# Altium integrated library TI_Logic_Universal_Bus_Function.IntLib: 113 symbols (part 3 of 5)
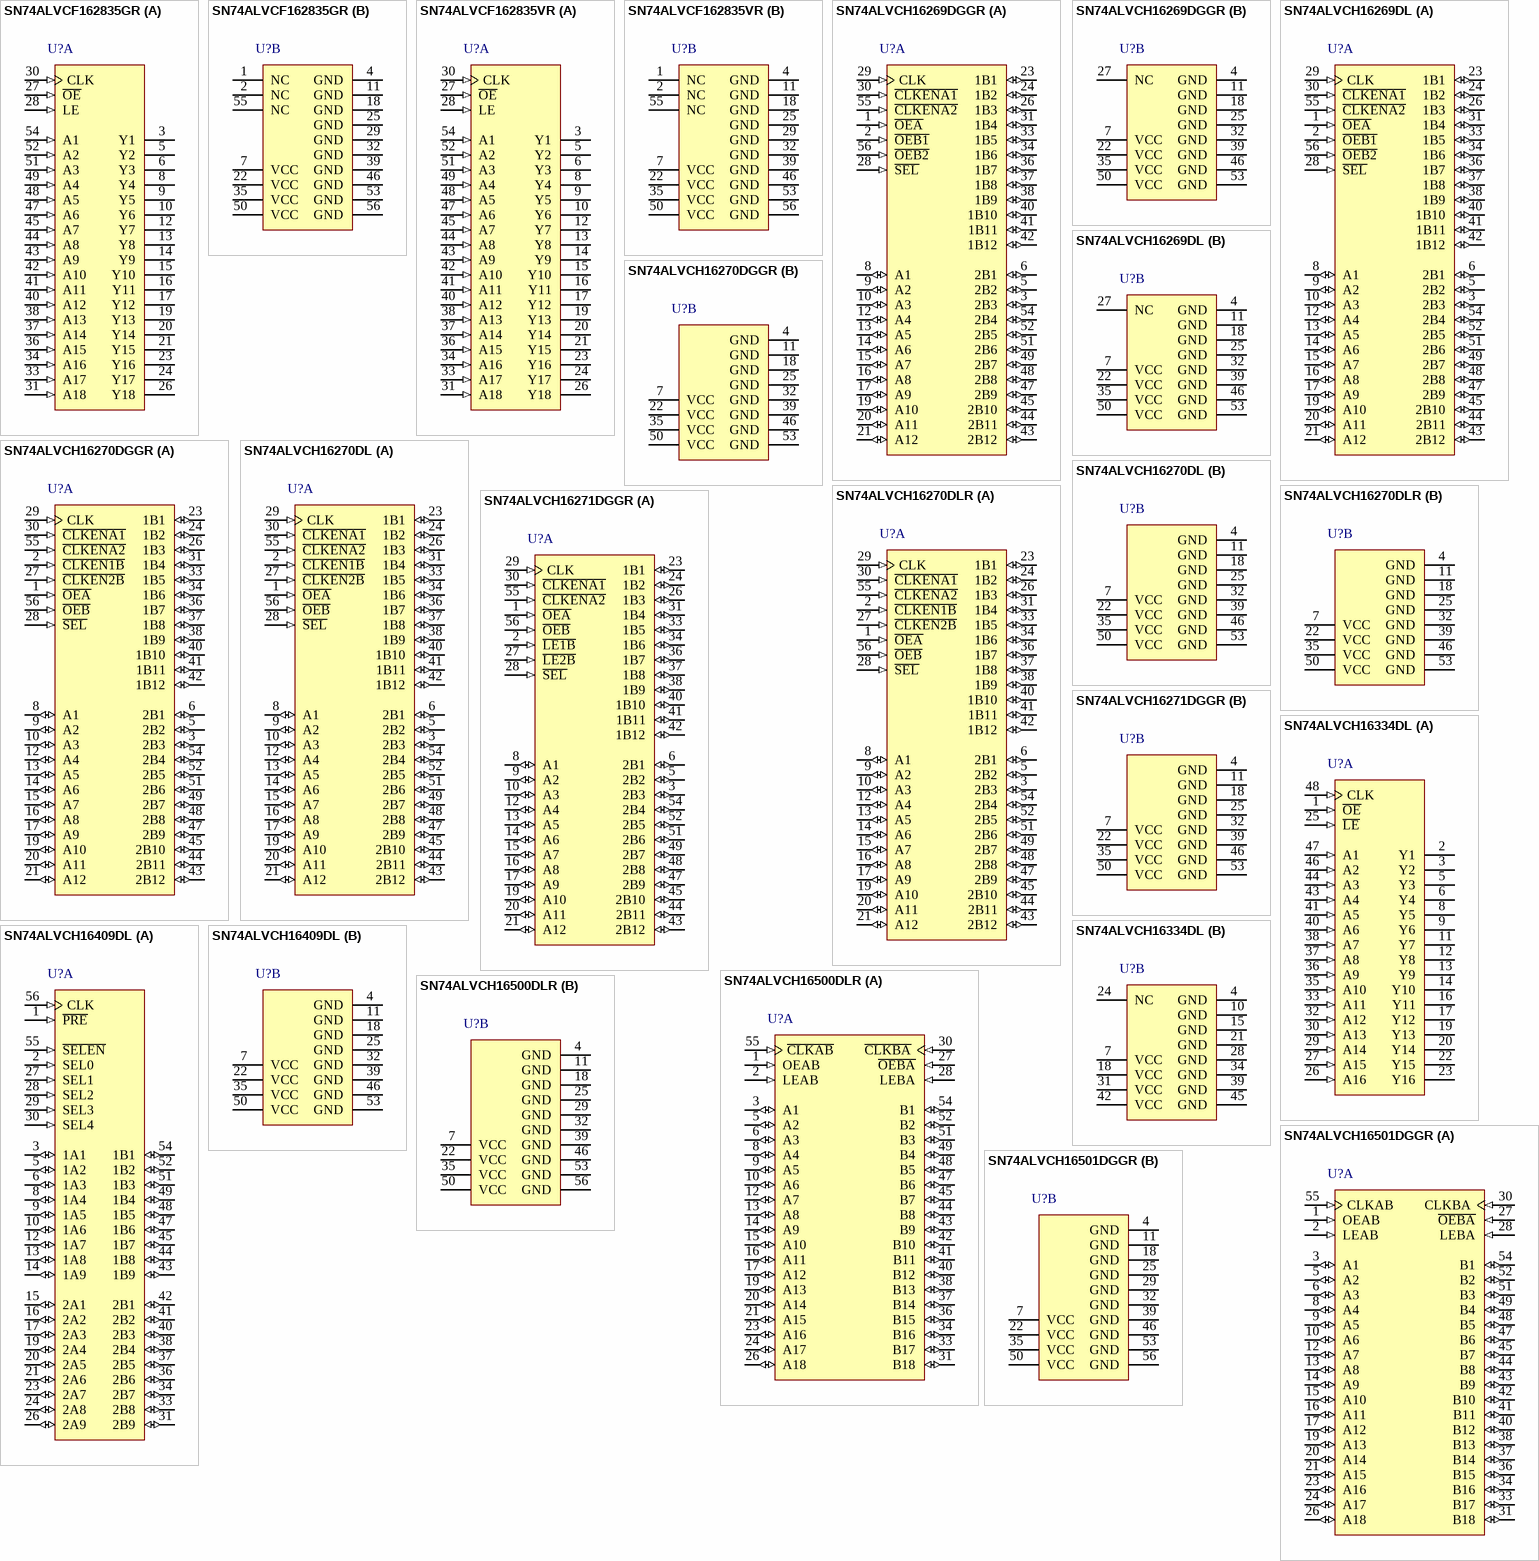
[diagram p11: symbols SN74ALVCF162835GR to SN74ALVCH16501DGGR]

## SN74ALVCH16269DGGR
designator U?
12-Bit To 24-Bit Registered Bus Exchanger With 3-State Outputs, DGG0056A, LARGE T&R; Generic Part Number: SN74ALVCH16269; Manufacturer: Texas Instruments; PartNumber: SN74ALVCH16269DGGR; VCC(Min)(V): 1.65; VCC(Max)(V): 3.6; Output Type: CMOS; Input Level: LVTTL; Static Current: 0.04; Bits(#): 24; F @ Nom Voltage(Max)(Mhz): 135; Rating: Catalog; DatasheetVersion: SCES019N; PackageReference: DGG0056A; Output Level: LVTTL; ICC @ Nom Voltage(Max)(mA): 0.04; Input Type: CMOS; Operating Temperature Range(C): -40 to 85; Code_JEDEC: MO-153; ComponentLink1Description: Manufacturer URL; ComponentLink1URL: http://www.ti.com/; ComponentLink2Description: Datasheet; ComponentLink2URL: http://www.ti.com/lit/ds/symlink/sn74alvch16269.pdf; ComponentLink3Description: Package Specification; ComponentLink3URL: http://www.ti.com/lit/ml/mtss003d/mtss003d.pdf
footprint DGG0056A_N (TSSOP, 56-Leads, Body 14.1x6.2mm, Pitch 0.5mm, IPC Medium Density)
footprint DGG0056A_M (TSSOP, 56-Leads, Body 14.1x6.2mm, Pitch 0.5mm, IPC Low Density)
footprint DGG0056A_L (TSSOP, 56-Leads, Body 14.1x6.2mm, Pitch 0.5mm, IPC High Density)
part A pins: 1 ~{OEA} (in), 2 ~{OEB1} (in), 3 2B3 (io), 5 2B2 (io), 6 2B1 (io), 8 A1 (io), 9 A2 (io), 10 A3 (io), 12 A4 (io), 13 A5 (io), 14 A6 (io), 15 A7 (io), 16 A8 (io), 17 A9 (io), 19 A10 (io), 20 A11 (io), 21 A12 (io), 23 1B1 (io), 24 1B2 (io), 26 1B3 (io), 28 ~{SEL} (in), 29 CLK (in), 30 ~{CLKENA1} (in), 31 1B4 (io), 33 1B5 (io), 34 1B6 (io), 36 1B7 (io), 37 1B8 (io), 38 1B9 (io), 40 1B10 (io), 41 1B11 (io), 42 1B12 (io), 43 2B12 (io), 44 2B11 (io), 45 2B10 (io), 47 2B9 (io), 48 2B8 (io), 49 2B7 (io), 51 2B6 (io), 52 2B5 (io), 54 2B4 (io), 55 ~{CLKENA2} (in), 56 ~{OEB2} (in)
part B pins: 4 GND (power), 7 VCC (power), 11 GND (power), 18 GND (power), 22 VCC (power), 25 GND (power), 27 NC, 32 GND (power), 35 VCC (power), 39 GND (power), 46 GND (power), 50 VCC (power), 53 GND (power)

## SN74ALVCH16269DL
designator U?
12-Bit To 24-Bit Registered Bus Exchanger With 3-State Outputs, DL0056A, TUBE; Generic Part Number: SN74ALVCH16269; Manufacturer: Texas Instruments; PartNumber: SN74ALVCH16269DL; VCC(Min)(V): 1.65; VCC(Max)(V): 3.6; Output Type: CMOS; Input Level: LVTTL; Static Current: 0.04; Bits(#): 24; F @ Nom Voltage(Max)(Mhz): 135; Rating: Catalog; DatasheetVersion: SCES019N; PackageReference: DL0056A; Output Level: LVTTL; ICC @ Nom Voltage(Max)(mA): 0.04; Input Type: CMOS; Operating Temperature Range(C): -40 to 85; Code_JEDEC: MO-118; ComponentLink1Description: Manufacturer URL; ComponentLink1URL: http://www.ti.com/; ComponentLink2Description: Datasheet; ComponentLink2URL: http://www.ti.com/lit/ds/symlink/sn74alvch16269.pdf; ComponentLink3Description: Package Specification; ComponentLink3URL: http://www.ti.com/lit/ml/mpds491/mpds491.pdf
footprint DL0056A_N (SOP, 56-Leads, Body 7.6x18.5mm, Pitch 0.635mm, IPC Medium Density)
footprint DL0056A_M (SOP, 56-Leads, Body 7.6x18.5mm, Pitch 0.635mm, IPC Low Density)
footprint DL0056A_L (SOP, 56-Leads, Body 7.6x18.5mm, Pitch 0.635mm, IPC High Density)
part A pins: 1 ~{OEA} (in), 2 ~{OEB1} (in), 3 2B3 (io), 5 2B2 (io), 6 2B1 (io), 8 A1 (io), 9 A2 (io), 10 A3 (io), 12 A4 (io), 13 A5 (io), 14 A6 (io), 15 A7 (io), 16 A8 (io), 17 A9 (io), 19 A10 (io), 20 A11 (io), 21 A12 (io), 23 1B1 (io), 24 1B2 (io), 26 1B3 (io), 28 ~{SEL} (in), 29 CLK (in), 30 ~{CLKENA1} (in), 31 1B4 (io), 33 1B5 (io), 34 1B6 (io), 36 1B7 (io), 37 1B8 (io), 38 1B9 (io), 40 1B10 (io), 41 1B11 (io), 42 1B12 (io), 43 2B12 (io), 44 2B11 (io), 45 2B10 (io), 47 2B9 (io), 48 2B8 (io), 49 2B7 (io), 51 2B6 (io), 52 2B5 (io), 54 2B4 (io), 55 ~{CLKENA2} (in), 56 ~{OEB2} (in)
part B pins: 4 GND (power), 7 VCC (power), 11 GND (power), 18 GND (power), 22 VCC (power), 25 GND (power), 27 NC, 32 GND (power), 35 VCC (power), 39 GND (power), 46 GND (power), 50 VCC (power), 53 GND (power)

## SN74ALVCH16270DGGR
designator U?
12-Bit To 24-Bit Registered Bus Exchanger With 3-State Outputs, DGG0056A, LARGE T&R; Generic Part Number: SN74ALVCH16270; Manufacturer: Texas Instruments; PartNumber: SN74ALVCH16270DGGR; VCC(Min)(V): 1.65; VCC(Max)(V): 3.6; Output Type: CMOS; Input Level: LVTTL; Static Current: 0.04; Bits(#): 24; F @ Nom Voltage(Max)(Mhz): 150; Rating: Catalog; DatasheetVersion: SCES028G; PackageReference: DGG0056A; Output Level: LVTTL; ICC @ Nom Voltage(Max)(mA): 0.04; Input Type: CMOS; Operating Temperature Range(C): -40 to 85; Code_JEDEC: MO-153; ComponentLink1Description: Manufacturer URL; ComponentLink1URL: http://www.ti.com/; ComponentLink2Description: Datasheet; ComponentLink2URL: http://www.ti.com/lit/ds/symlink/sn74alvch16270.pdf; ComponentLink3Description: Package Specification; ComponentLink3URL: http://www.ti.com/lit/ml/mtss003d/mtss003d.pdf
footprint DGG0056A_N (TSSOP, 56-Leads, Body 14.1x6.2mm, Pitch 0.5mm, IPC Medium Density)
footprint DGG0056A_M (TSSOP, 56-Leads, Body 14.1x6.2mm, Pitch 0.5mm, IPC Low Density)
footprint DGG0056A_L (TSSOP, 56-Leads, Body 14.1x6.2mm, Pitch 0.5mm, IPC High Density)
part A pins: 1 ~{OEA} (in), 2 ~{CLKEN1B} (in), 3 2B3 (io), 5 2B2 (io), 6 2B1 (io), 8 A1 (io), 9 A2 (io), 10 A3 (io), 12 A4 (io), 13 A5 (io), 14 A6 (io), 15 A7 (io), 16 A8 (io), 17 A9 (io), 19 A10 (io), 20 A11 (io), 21 A12 (io), 23 1B1 (io), 24 1B2 (io), 26 1B3 (io), 27 ~{CLKEN2B} (in), 28 ~{SEL} (in), 29 CLK (in), 30 ~{CLKENA1} (in), 31 1B4 (io), 33 1B5 (io), 34 1B6 (io), 36 1B7 (io), 37 1B8 (io), 38 1B9 (io), 40 1B10 (io), 41 1B11 (io), 42 1B12 (io), 43 2B12 (io), 44 2B11 (io), 45 2B10 (io), 47 2B9 (io), 48 2B8 (io), 49 2B7 (io), 51 2B6 (io), 52 2B5 (io), 54 2B4 (io), 55 ~{CLKENA2} (in), 56 ~{OEB} (in)
part B pins: 4 GND (power), 7 VCC (power), 11 GND (power), 18 GND (power), 22 VCC (power), 25 GND (power), 32 GND (power), 35 VCC (power), 39 GND (power), 46 GND (power), 50 VCC (power), 53 GND (power)

## SN74ALVCH16270DL
designator U?
12-Bit To 24-Bit Registered Bus Exchanger With 3-State Outputs, DL0056A, TUBE; Generic Part Number: SN74ALVCH16270; Manufacturer: Texas Instruments; PartNumber: SN74ALVCH16270DL; VCC(Min)(V): 1.65; VCC(Max)(V): 3.6; Output Type: CMOS; Input Level: LVTTL; Static Current: 0.04; Bits(#): 24; F @ Nom Voltage(Max)(Mhz): 150; Rating: Catalog; DatasheetVersion: SCES028G; PackageReference: DL0056A; Output Level: LVTTL; ICC @ Nom Voltage(Max)(mA): 0.04; Input Type: CMOS; Operating Temperature Range(C): -40 to 85; Code_JEDEC: MO-118; ComponentLink1Description: Manufacturer URL; ComponentLink1URL: http://www.ti.com/; ComponentLink2Description: Datasheet; ComponentLink2URL: http://www.ti.com/lit/ds/symlink/sn74alvch16270.pdf; ComponentLink3Description: Package Specification; ComponentLink3URL: http://www.ti.com/lit/ml/mpds491/mpds491.pdf
footprint DL0056A_N (SOP, 56-Leads, Body 7.6x18.5mm, Pitch 0.635mm, IPC Medium Density)
footprint DL0056A_M (SOP, 56-Leads, Body 7.6x18.5mm, Pitch 0.635mm, IPC Low Density)
footprint DL0056A_L (SOP, 56-Leads, Body 7.6x18.5mm, Pitch 0.635mm, IPC High Density)
part A pins: 1 ~{OEA} (in), 2 ~{CLKEN1B} (in), 3 2B3 (io), 5 2B2 (io), 6 2B1 (io), 8 A1 (io), 9 A2 (io), 10 A3 (io), 12 A4 (io), 13 A5 (io), 14 A6 (io), 15 A7 (io), 16 A8 (io), 17 A9 (io), 19 A10 (io), 20 A11 (io), 21 A12 (io), 23 1B1 (io), 24 1B2 (io), 26 1B3 (io), 27 ~{CLKEN2B} (in), 28 ~{SEL} (in), 29 CLK (in), 30 ~{CLKENA1} (in), 31 1B4 (io), 33 1B5 (io), 34 1B6 (io), 36 1B7 (io), 37 1B8 (io), 38 1B9 (io), 40 1B10 (io), 41 1B11 (io), 42 1B12 (io), 43 2B12 (io), 44 2B11 (io), 45 2B10 (io), 47 2B9 (io), 48 2B8 (io), 49 2B7 (io), 51 2B6 (io), 52 2B5 (io), 54 2B4 (io), 55 ~{CLKENA2} (in), 56 ~{OEB} (in)
part B pins: 4 GND (power), 7 VCC (power), 11 GND (power), 18 GND (power), 22 VCC (power), 25 GND (power), 32 GND (power), 35 VCC (power), 39 GND (power), 46 GND (power), 50 VCC (power), 53 GND (power)

## SN74ALVCH16270DLR
designator U?
12-Bit To 24-Bit Registered Bus Exchanger With 3-State Outputs, DL0056A, LARGE T&R; Generic Part Number: SN74ALVCH16270; Manufacturer: Texas Instruments; PartNumber: SN74ALVCH16270DLR; VCC(Min)(V): 1.65; VCC(Max)(V): 3.6; Output Type: CMOS; Input Level: LVTTL; Static Current: 0.04; Bits(#): 24; F @ Nom Voltage(Max)(Mhz): 150; Rating: Catalog; DatasheetVersion: SCES028G; PackageReference: DL0056A; Output Level: LVTTL; ICC @ Nom Voltage(Max)(mA): 0.04; Input Type: CMOS; Operating Temperature Range(C): -40 to 85; Code_JEDEC: MO-118; ComponentLink1Description: Manufacturer URL; ComponentLink1URL: http://www.ti.com/; ComponentLink2Description: Datasheet; ComponentLink2URL: http://www.ti.com/lit/ds/symlink/sn74alvch16270.pdf; ComponentLink3Description: Package Specification; ComponentLink3URL: http://www.ti.com/lit/ml/mpds491/mpds491.pdf
footprint DL0056A_N (SOP, 56-Leads, Body 7.6x18.5mm, Pitch 0.635mm, IPC Medium Density)
footprint DL0056A_M (SOP, 56-Leads, Body 7.6x18.5mm, Pitch 0.635mm, IPC Low Density)
footprint DL0056A_L (SOP, 56-Leads, Body 7.6x18.5mm, Pitch 0.635mm, IPC High Density)
part A pins: 1 ~{OEA} (in), 2 ~{CLKEN1B} (in), 3 2B3 (io), 5 2B2 (io), 6 2B1 (io), 8 A1 (io), 9 A2 (io), 10 A3 (io), 12 A4 (io), 13 A5 (io), 14 A6 (io), 15 A7 (io), 16 A8 (io), 17 A9 (io), 19 A10 (io), 20 A11 (io), 21 A12 (io), 23 1B1 (io), 24 1B2 (io), 26 1B3 (io), 27 ~{CLKEN2B} (in), 28 ~{SEL} (in), 29 CLK (in), 30 ~{CLKENA1} (in), 31 1B4 (io), 33 1B5 (io), 34 1B6 (io), 36 1B7 (io), 37 1B8 (io), 38 1B9 (io), 40 1B10 (io), 41 1B11 (io), 42 1B12 (io), 43 2B12 (io), 44 2B11 (io), 45 2B10 (io), 47 2B9 (io), 48 2B8 (io), 49 2B7 (io), 51 2B6 (io), 52 2B5 (io), 54 2B4 (io), 55 ~{CLKENA2} (in), 56 ~{OEB} (in)
part B pins: 4 GND (power), 7 VCC (power), 11 GND (power), 18 GND (power), 22 VCC (power), 25 GND (power), 32 GND (power), 35 VCC (power), 39 GND (power), 46 GND (power), 50 VCC (power), 53 GND (power)

## SN74ALVCH16271DGGR
designator U?
12-Bit To 24-Bit Multiplexed Bus Exchanger With 3-State Outputs, DGG0056A, LARGE T&R; Generic Part Number: SN74ALVCH16271; Manufacturer: Texas Instruments; PartNumber: SN74ALVCH16271DGGR; VCC(Min)(V): 1.65; VCC(Max)(V): 3.6; Output Type: CMOS; Input Level: LVTTL; Static Current: 0.04; Bits(#): 24; F @ Nom Voltage(Max)(Mhz): 130; Rating: Catalog; DatasheetVersion: SCES017G; PackageReference: DGG0056A; Output Level: LVTTL; ICC @ Nom Voltage(Max)(mA): 0.04; Input Type: CMOS; Operating Temperature Range(C): -40 to 85; Code_JEDEC: MO-153; ComponentLink1Description: Manufacturer URL; ComponentLink1URL: http://www.ti.com/; ComponentLink2Description: Datasheet; ComponentLink2URL: http://www.ti.com/lit/ds/symlink/sn74alvch16271.pdf; ComponentLink3Description: Package Specification; ComponentLink3URL: http://www.ti.com/lit/ml/mtss003d/mtss003d.pdf
footprint DGG0056A_N (TSSOP, 56-Leads, Body 14.1x6.2mm, Pitch 0.5mm, IPC Medium Density)
footprint DGG0056A_M (TSSOP, 56-Leads, Body 14.1x6.2mm, Pitch 0.5mm, IPC Low Density)
footprint DGG0056A_L (TSSOP, 56-Leads, Body 14.1x6.2mm, Pitch 0.5mm, IPC High Density)
part A pins: 1 ~{OEA} (in), 2 ~{LE1B} (in), 3 2B3 (io), 5 2B2 (io), 6 2B1 (io), 8 A1 (io), 9 A2 (io), 10 A3 (io), 12 A4 (io), 13 A5 (io), 14 A6 (io), 15 A7 (io), 16 A8 (io), 17 A9 (io), 19 A10 (io), 20 A11 (io), 21 A12 (io), 23 1B1 (io), 24 1B2 (io), 26 1B3 (io), 27 ~{LE2B} (in), 28 ~{SEL} (in), 29 CLK (in), 30 ~{CLKENA1} (in), 31 1B4 (io), 33 1B5 (io), 34 1B6 (io), 36 1B7 (io), 37 1B8 (io), 38 1B9 (io), 40 1B10 (io), 41 1B11 (io), 42 1B12 (io), 43 2B12 (io), 44 2B11 (io), 45 2B10 (io), 47 2B9 (io), 48 2B8 (io), 49 2B7 (io), 51 2B6 (io), 52 2B5 (io), 54 2B4 (io), 55 ~{CLKENA2} (in), 56 ~{OEB} (in)
part B pins: 4 GND (power), 7 VCC (power), 11 GND (power), 18 GND (power), 22 VCC (power), 25 GND (power), 32 GND (power), 35 VCC (power), 39 GND (power), 46 GND (power), 50 VCC (power), 53 GND (power)

## SN74ALVCH16334DL
designator U?
16-Bit Universal Bus Driver With 3-State Outputs, DL0048A, TUBE; Generic Part Number: SN74ALVCH16334; Manufacturer: Texas Instruments; PartNumber: SN74ALVCH16334DL; VCC(Min)(V): 1.65; VCC(Max)(V): 3.6; Output Type: CMOS; ICC @ Nom Voltage(Max)(mA): 0.04; Bits(#): 16; F @ Nom Voltage(Max)(Mhz): 150; Rating: Catalog; Technology Family: ALVC; Voltage(Nom)(V): 1.8,2.5,2.7,3.3; DatasheetVersion: SCES090I; PackageReference: DL0048A; Input Type: CMOS; Operating Temperature Range(C): -40 to 85; Code_JEDEC: MO-118; ComponentLink1Description: Manufacturer URL; ComponentLink1URL: http://www.ti.com/; ComponentLink2Description: Datasheet; ComponentLink2URL: http://www.ti.com/lit/ds/symlink/sn74alvch16334.pdf; ComponentLink3Description: Package Specification; ComponentLink3URL: http://www.ti.com/lit/ml/mpds490/mpds490.pdf
footprint DL0048A_N (SOP, 48-Leads, Body 7.6x16mm, Pitch 0.635mm, IPC Medium Density)
footprint DL0048A_M (SOP, 48-Leads, Body 7.6x16mm, Pitch 0.635mm, IPC Low Density)
footprint DL0048A_L (SOP, 48-Leads, Body 7.6x16mm, Pitch 0.635mm, IPC High Density)
part A pins: 1 ~{OE} (in), 2 Y1 (hiz), 3 Y2 (hiz), 5 Y3 (hiz), 6 Y4 (hiz), 8 Y5 (hiz), 9 Y6 (hiz), 11 Y7 (hiz), 12 Y8 (hiz), 13 Y9 (hiz), 14 Y10 (hiz), 16 Y11 (hiz), 17 Y12 (hiz), 19 Y13 (hiz), 20 Y14 (hiz), 22 Y15 (hiz), 23 Y16 (hiz), 25 ~{LE} (in), 26 A16 (in), 27 A15 (in), 29 A14 (in), 30 A13 (in), 32 A12 (in), 33 A11 (in), 35 A10 (in), 36 A9 (in), 37 A8 (in), 38 A7 (in), 40 A6 (in), 41 A5 (in), 43 A4 (in), 44 A3 (in), 46 A2 (in), 47 A1 (in), 48 CLK (in)
part B pins: 4 GND (power), 7 VCC (power), 10 GND (power), 15 GND (power), 18 VCC (power), 21 GND (power), 24 NC, 28 GND (power), 31 VCC (power), 34 GND (power), 39 GND (power), 42 VCC (power), 45 GND (power)

## SN74ALVCH16409DL
designator U?
9-Bit 4-Port Universal Bus Exchanger With 3-State Outputs, DL0056A, TUBE; Generic Part Number: SN74ALVCH16409; Manufacturer: Texas Instruments; PartNumber: SN74ALVCH16409DL; VCC(Min)(V): 1.65; VCC(Max)(V): 3.6; Output Type: CMOS; Input Level: LVTTL; Static Current: 0.04; Bits(#): 9; F @ Nom Voltage(Max)(Mhz): 120; Rating: Catalog; DatasheetVersion: SCES022G; PackageReference: DL0056A; Output Level: LVTTL; ICC @ Nom Voltage(Max)(mA): 0.04; Input Type: CMOS; Operating Temperature Range(C): -40 to 85; Code_JEDEC: MO-118; ComponentLink1Description: Manufacturer URL; ComponentLink1URL: http://www.ti.com/; ComponentLink2Description: Datasheet; ComponentLink2URL: http://www.ti.com/lit/ds/symlink/sn74alvch16409.pdf; ComponentLink3Description: Package Specification; ComponentLink3URL: http://www.ti.com/lit/ml/mpds491/mpds491.pdf
footprint DL0056A_N (SOP, 56-Leads, Body 7.6x18.5mm, Pitch 0.635mm, IPC Medium Density)
footprint DL0056A_M (SOP, 56-Leads, Body 7.6x18.5mm, Pitch 0.635mm, IPC Low Density)
footprint DL0056A_L (SOP, 56-Leads, Body 7.6x18.5mm, Pitch 0.635mm, IPC High Density)
part A pins: 1 ~{PRE} (in), 2 SEL0 (in), 3 1A1 (io), 5 1A2 (io), 6 1A3 (io), 8 1A4 (io), 9 1A5 (io), 10 1A6 (io), 12 1A7 (io), 13 1A8 (io), 14 1A9 (io), 15 2A1 (io), 16 2A2 (io), 17 2A3 (io), 19 2A4 (io), 20 2A5 (io), 21 2A6 (io), 23 2A7 (io), 24 2A8 (io), 26 2A9 (io), 27 SEL1 (in), 28 SEL2 (in), 29 SEL3 (in), 30 SEL4 (in), 31 2B9 (io), 33 2B8 (io), 34 2B7 (io), 36 2B6 (io), 37 2B5 (io), 38 2B4 (io), 40 2B3 (io), 41 2B2 (io), 42 2B1 (io), 43 1B9 (io), 44 1B8 (io), 45 1B7 (io), 47 1B6 (io), 48 1B5 (io), 49 1B4 (io), 51 1B3 (io), 52 1B2 (io), 54 1B1 (io), 55 ~{SELEN} (in), 56 CLK (in)
part B pins: 4 GND (power), 7 VCC (power), 11 GND (power), 18 GND (power), 22 VCC (power), 25 GND (power), 32 GND (power), 35 VCC (power), 39 GND (power), 46 GND (power), 50 VCC (power), 53 GND (power)

## SN74ALVCH16500DLR
designator U?
18-Bit Universal Bus Transceiver With 3-State Outputs, DL0056A, LARGE T&R; Generic Part Number: SN74ALVCH16500; Manufacturer: Texas Instruments; PartNumber: SN74ALVCH16500DLR; VCC(Min)(V): 1.65; VCC(Max)(V): 3.6; Output Type: LVTTL; Logic: True; Static Current: 0.04; Bits(#): 18; F @ Nom Voltage(Max)(Mhz): 100; Rating: Catalog; Technology Family: ALVC; Voltage(Nom)(V): 3.3; Schmitt Trigger: No; Output Drive (IOL/IOH)(Max)(mA): -24/24; tpd @ Nom Voltage(Max)(ns): 5.5; DatasheetVersion: SCES023I; PackageReference: DL0056A; Supplier 1: Mouser; Supplier Part Number 1: 595-74ALVCH16500DLR; Supplier 2: Digi-Key; Supplier Part Number 2: 296-5230-2-ND; Supplier 3: Digi-Key; Supplier Part Number 3: 296-5230-1-ND; Supplier 4: Digi-Key; Supplier Part Number 4: 296-5230-6-ND; ICC @ Nom Voltage(Max)(mA): 0.04; Input Type: LVTTL; Operating Temperature Range(C): -40 to 85; ComponentLink1Description: Manufacturer URL; ComponentLink1URL: http://www.ti.com/; ComponentLink2Description: Datasheet; ComponentLink2URL: http://www.ti.com/lit/ds/symlink/sn74alvch16500.pdf
footprint DL0056A_N (SOP, 56-Leads, Body 7.6x18.5mm, Pitch 0.635mm, IPC Medium Density)
footprint DL0056A_M (SOP, 56-Leads, Body 7.6x18.5mm, Pitch 0.635mm, IPC Low Density)
footprint DL0056A_L (SOP, 56-Leads, Body 7.6x18.5mm, Pitch 0.635mm, IPC High Density)
part A pins: 1 OEAB (in), 2 LEAB (in), 3 A1 (io), 5 A2 (io), 6 A3 (io), 8 A4 (io), 9 A5 (io), 10 A6 (io), 12 A7 (io), 13 A8 (io), 14 A9 (io), 15 A10 (io), 16 A11 (io), 17 A12 (io), 19 A13 (io), 20 A14 (io), 21 A15 (io), 23 A16 (io), 24 A17 (io), 26 A18 (io), 27 ~{OEBA} (in), 28 LEBA (in), 30 ~{CLKBA} (in), 31 B18 (io), 33 B17 (io), 34 B16 (io), 36 B15 (io), 37 B14 (io), 38 B13 (io), 40 B12 (io), 41 B11 (io), 42 B10 (io), 43 B9 (io), 44 B8 (io), 45 B7 (io), 47 B6 (io), 48 B5 (io), 49 B4 (io), 51 B3 (io), 52 B2 (io), 54 B1 (io), 55 ~{CLKAB} (in)
part B pins: 4 GND (power), 7 VCC (power), 11 GND (power), 18 GND (power), 22 VCC (power), 25 GND (power), 29 GND (power), 32 GND (power), 35 VCC (power), 39 GND (power), 46 GND (power), 50 VCC (power), 53 GND (power), 56 GND (power)

## SN74ALVCH16501DGGR
designator U?
18-Bit Universal Bus Transceiver With 3-State Outputs, DGG0056A, LARGE T&R; Generic Part Number: SN74ALVCH16501; Manufacturer: Texas Instruments; PartNumber: SN74ALVCH16501DGGR; VCC(Min)(V): 1.65; VCC(Max)(V): 3.6; Output Type: LVTTL; Logic: True; Static Current: 0.04; Bits(#): 18; F @ Nom Voltage(Max)(Mhz): 100; Rating: Catalog; Technology Family: ALVC; Voltage(Nom)(V): 3.3; Schmitt Trigger: No; Output Drive (IOL/IOH)(Max)(mA): -24/24; tpd @ Nom Voltage(Max)(ns): 4.9; DatasheetVersion: SCES024J; PackageReference: DGG0056A; Supplier 1: Mouser; Supplier Part Number 1: 595-74ALVCH16501DGGR; Supplier 2: Digi-Key; Supplier Part Number 2: 296-1145-2-ND; Supplier 3: Digi-Key; Supplier Part Number 3: 296-1145-1-ND; Supplier 4: Digi-Key; Supplier Part Number 4: 296-1145-6-ND; ICC @ Nom Voltage(Max)(mA): 0.04; Input Type: LVTTL; Operating Temperature Range(C): -40 to 85; ComponentLink1Description: Manufacturer URL; ComponentLink1URL: http://www.ti.com/; ComponentLink2Description: Datasheet; ComponentLink2URL: http://www.ti.com/lit/ds/symlink/sn74alvch16501.pdf
footprint DGG0056A_N (TSSOP, 56-Leads, Body 14.1x6.2mm, Pitch 0.5mm, IPC Medium Density)
footprint DGG0056A_M (TSSOP, 56-Leads, Body 14.1x6.2mm, Pitch 0.5mm, IPC Low Density)
footprint DGG0056A_L (TSSOP, 56-Leads, Body 14.1x6.2mm, Pitch 0.5mm, IPC High Density)
part A pins: 1 OEAB (in), 2 LEAB (in), 3 A1 (io), 5 A2 (io), 6 A3 (io), 8 A4 (io), 9 A5 (io), 10 A6 (io), 12 A7 (io), 13 A8 (io), 14 A9 (io), 15 A10 (io), 16 A11 (io), 17 A12 (io), 19 A13 (io), 20 A14 (io), 21 A15 (io), 23 A16 (io), 24 A17 (io), 26 A18 (io), 27 ~{OEBA} (in), 28 LEBA (in), 30 CLKBA (in), 31 B18 (io), 33 B17 (io), 34 B16 (io), 36 B15 (io), 37 B14 (io), 38 B13 (io), 40 B12 (io), 41 B11 (io), 42 B10 (io), 43 B9 (io), 44 B8 (io), 45 B7 (io), 47 B6 (io), 48 B5 (io), 49 B4 (io), 51 B3 (io), 52 B2 (io), 54 B1 (io), 55 CLKAB (in)
part B pins: 4 GND (power), 7 VCC (power), 11 GND (power), 18 GND (power), 22 VCC (power), 25 GND (power), 29 GND (power), 32 GND (power), 35 VCC (power), 39 GND (power), 46 GND (power), 50 VCC (power), 53 GND (power), 56 GND (power)

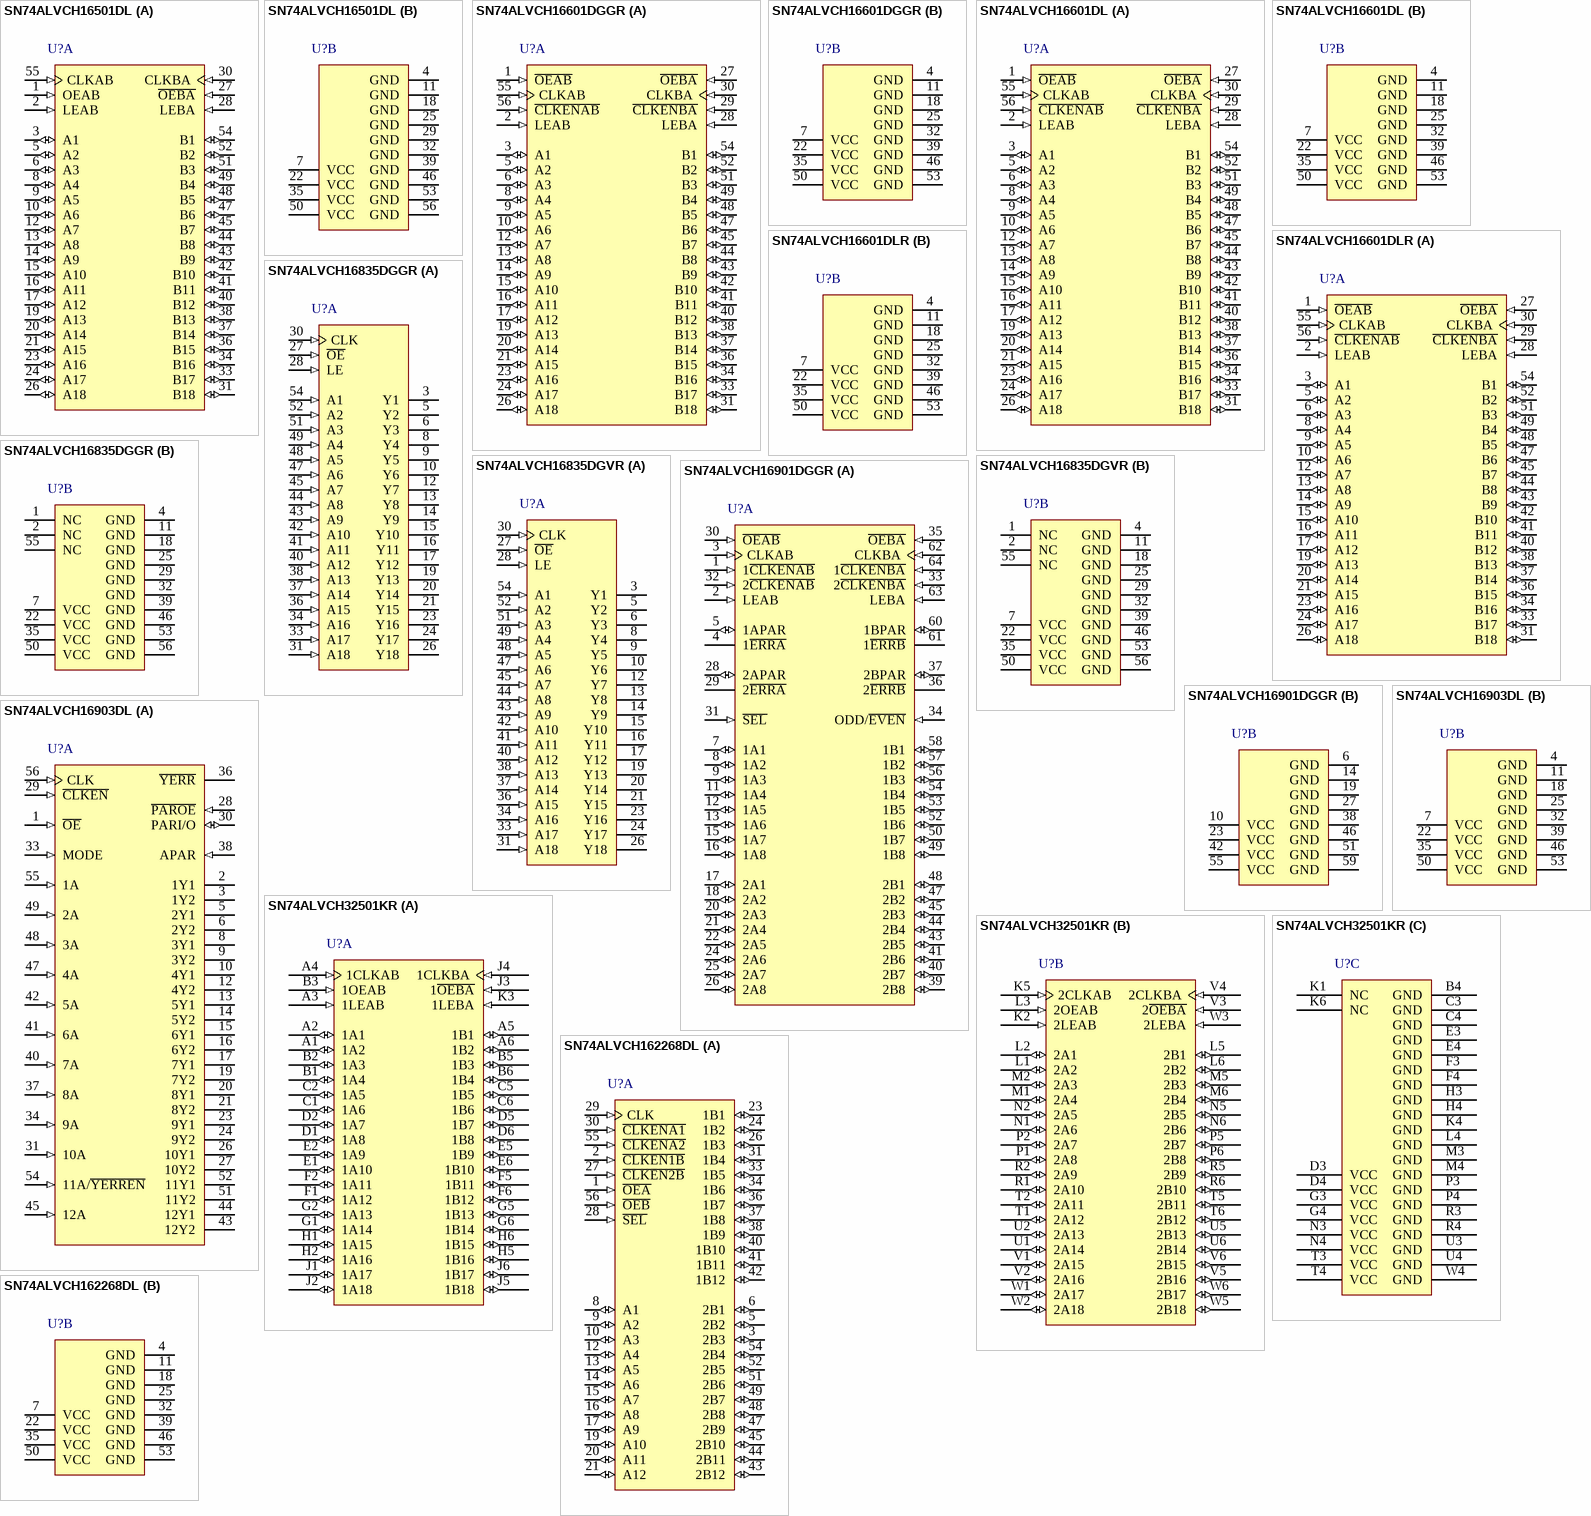
[diagram p5: symbols SN74ALVCH16501DL to SN74ALVCH162268DL]

## SN74ALVCH16501DL
designator U?
18-Bit Universal Bus Transceiver With 3-State Outputs, DL0056A, TUBE; Generic Part Number: SN74ALVCH16501; Manufacturer: Texas Instruments; PartNumber: SN74ALVCH16501DL; VCC(Min)(V): 1.65; VCC(Max)(V): 3.6; Output Type: LVTTL; Logic: True; Static Current: 0.04; Bits(#): 18; F @ Nom Voltage(Max)(Mhz): 100; Rating: Catalog; Technology Family: ALVC; Voltage(Nom)(V): 3.3; Schmitt Trigger: No; Output Drive (IOL/IOH)(Max)(mA): -24/24; tpd @ Nom Voltage(Max)(ns): 4.9; DatasheetVersion: SCES024J; PackageReference: DL0056A; Supplier 1: Mouser; Supplier Part Number 1: 595-SN74ALVCH16501DL; Supplier 2: Digi-Key; Supplier Part Number 2: 296-5231-5-ND; ICC @ Nom Voltage(Max)(mA): 0.04; Input Type: LVTTL; Operating Temperature Range(C): -40 to 85; ComponentLink1Description: Manufacturer URL; ComponentLink1URL: http://www.ti.com/; ComponentLink2Description: Datasheet; ComponentLink2URL: http://www.ti.com/lit/ds/symlink/sn74alvch16501.pdf
footprint DL0056A_N (SOP, 56-Leads, Body 7.6x18.5mm, Pitch 0.635mm, IPC Medium Density)
footprint DL0056A_M (SOP, 56-Leads, Body 7.6x18.5mm, Pitch 0.635mm, IPC Low Density)
footprint DL0056A_L (SOP, 56-Leads, Body 7.6x18.5mm, Pitch 0.635mm, IPC High Density)
part A pins: 1 OEAB (in), 2 LEAB (in), 3 A1 (io), 5 A2 (io), 6 A3 (io), 8 A4 (io), 9 A5 (io), 10 A6 (io), 12 A7 (io), 13 A8 (io), 14 A9 (io), 15 A10 (io), 16 A11 (io), 17 A12 (io), 19 A13 (io), 20 A14 (io), 21 A15 (io), 23 A16 (io), 24 A17 (io), 26 A18 (io), 27 ~{OEBA} (in), 28 LEBA (in), 30 CLKBA (in), 31 B18 (io), 33 B17 (io), 34 B16 (io), 36 B15 (io), 37 B14 (io), 38 B13 (io), 40 B12 (io), 41 B11 (io), 42 B10 (io), 43 B9 (io), 44 B8 (io), 45 B7 (io), 47 B6 (io), 48 B5 (io), 49 B4 (io), 51 B3 (io), 52 B2 (io), 54 B1 (io), 55 CLKAB (in)
part B pins: 4 GND (power), 7 VCC (power), 11 GND (power), 18 GND (power), 22 VCC (power), 25 GND (power), 29 GND (power), 32 GND (power), 35 VCC (power), 39 GND (power), 46 GND (power), 50 VCC (power), 53 GND (power), 56 GND (power)

## SN74ALVCH16601DGGR
designator U?
18-Bit Universal Bus Transceiver With 3-State Outputs, DGG0056A, LARGE T&R; Generic Part Number: SN74ALVCH16601; Manufacturer: Texas Instruments; PartNumber: SN74ALVCH16601DGGR; VCC(Min)(V): 1.65; VCC(Max)(V): 3.6; Output Type: LVTTL; Logic: True; Static Current: 0.04; Bits(#): 18; F @ Nom Voltage(Max)(Mhz): 100; Rating: Catalog; Technology Family: ALVC; Voltage(Nom)(V): 3.3; Schmitt Trigger: No; Output Drive (IOL/IOH)(Max)(mA): -24/24; tpd @ Nom Voltage(Max)(ns): 5; DatasheetVersion: SCES027F; PackageReference: DGG0056A; Supplier 1: Mouser; Supplier Part Number 1: 595-74ALVCH16601DGGR; Supplier 2: Digi-Key; Supplier Part Number 2: 296-1146-2-ND; Supplier 3: Digi-Key; Supplier Part Number 3: 296-1146-1-ND; Supplier 4: Digi-Key; Supplier Part Number 4: 296-1146-6-ND; ICC @ Nom Voltage(Max)(mA): 0.04; Input Type: LVTTL; Operating Temperature Range(C): -40 to 85; ComponentLink1Description: Manufacturer URL; ComponentLink1URL: http://www.ti.com/; ComponentLink2Description: Datasheet; ComponentLink2URL: http://www.ti.com/lit/ds/symlink/sn74alvch16601.pdf
footprint DGG0056A_N (TSSOP, 56-Leads, Body 14.1x6.2mm, Pitch 0.5mm, IPC Medium Density)
footprint DGG0056A_M (TSSOP, 56-Leads, Body 14.1x6.2mm, Pitch 0.5mm, IPC Low Density)
footprint DGG0056A_L (TSSOP, 56-Leads, Body 14.1x6.2mm, Pitch 0.5mm, IPC High Density)
part A pins: 1 ~{OEAB} (in), 2 LEAB (in), 3 A1 (io), 5 A2 (io), 6 A3 (io), 8 A4 (io), 9 A5 (io), 10 A6 (io), 12 A7 (io), 13 A8 (io), 14 A9 (io), 15 A10 (io), 16 A11 (io), 17 A12 (io), 19 A13 (io), 20 A14 (io), 21 A15 (io), 23 A16 (io), 24 A17 (io), 26 A18 (io), 27 ~{OEBA} (in), 28 LEBA (in), 29 ~{CLKENBA} (in), 30 CLKBA (in), 31 B18 (io), 33 B17 (io), 34 B16 (io), 36 B15 (io), 37 B14 (io), 38 B13 (io), 40 B12 (io), 41 B11 (io), 42 B10 (io), 43 B9 (io), 44 B8 (io), 45 B7 (io), 47 B6 (io), 48 B5 (io), 49 B4 (io), 51 B3 (io), 52 B2 (io), 54 B1 (io), 55 CLKAB (in), 56 ~{CLKENAB} (in)
part B pins: 4 GND (power), 7 VCC (power), 11 GND (power), 18 GND (power), 22 VCC (power), 25 GND (power), 32 GND (power), 35 VCC (power), 39 GND (power), 46 GND (power), 50 VCC (power), 53 GND (power)

## SN74ALVCH16601DL
designator U?
18-Bit Universal Bus Transceiver With 3-State Outputs, DL0056A, TUBE; Generic Part Number: SN74ALVCH16601; Manufacturer: Texas Instruments; PartNumber: SN74ALVCH16601DL; VCC(Min)(V): 1.65; VCC(Max)(V): 3.6; Output Type: LVTTL; Logic: True; Static Current: 0.04; Bits(#): 18; F @ Nom Voltage(Max)(Mhz): 100; Rating: Catalog; Technology Family: ALVC; Voltage(Nom)(V): 3.3; Schmitt Trigger: No; Output Drive (IOL/IOH)(Max)(mA): -24/24; tpd @ Nom Voltage(Max)(ns): 5; DatasheetVersion: SCES027F; PackageReference: DL0056A; Supplier 1: Mouser; Supplier Part Number 1: 595-SN74ALVCH16601DL; Supplier 2: Digi-Key; Supplier Part Number 2: 296-5240-5-ND; ICC @ Nom Voltage(Max)(mA): 0.04; Input Type: LVTTL; Operating Temperature Range(C): -40 to 85; ComponentLink1Description: Manufacturer URL; ComponentLink1URL: http://www.ti.com/; ComponentLink2Description: Datasheet; ComponentLink2URL: http://www.ti.com/lit/ds/symlink/sn74alvch16601.pdf
footprint DL0056A_N (SOP, 56-Leads, Body 7.6x18.5mm, Pitch 0.635mm, IPC Medium Density)
footprint DL0056A_M (SOP, 56-Leads, Body 7.6x18.5mm, Pitch 0.635mm, IPC Low Density)
footprint DL0056A_L (SOP, 56-Leads, Body 7.6x18.5mm, Pitch 0.635mm, IPC High Density)
part A pins: 1 ~{OEAB} (in), 2 LEAB (in), 3 A1 (io), 5 A2 (io), 6 A3 (io), 8 A4 (io), 9 A5 (io), 10 A6 (io), 12 A7 (io), 13 A8 (io), 14 A9 (io), 15 A10 (io), 16 A11 (io), 17 A12 (io), 19 A13 (io), 20 A14 (io), 21 A15 (io), 23 A16 (io), 24 A17 (io), 26 A18 (io), 27 ~{OEBA} (in), 28 LEBA (in), 29 ~{CLKENBA} (in), 30 CLKBA (in), 31 B18 (io), 33 B17 (io), 34 B16 (io), 36 B15 (io), 37 B14 (io), 38 B13 (io), 40 B12 (io), 41 B11 (io), 42 B10 (io), 43 B9 (io), 44 B8 (io), 45 B7 (io), 47 B6 (io), 48 B5 (io), 49 B4 (io), 51 B3 (io), 52 B2 (io), 54 B1 (io), 55 CLKAB (in), 56 ~{CLKENAB} (in)
part B pins: 4 GND (power), 7 VCC (power), 11 GND (power), 18 GND (power), 22 VCC (power), 25 GND (power), 32 GND (power), 35 VCC (power), 39 GND (power), 46 GND (power), 50 VCC (power), 53 GND (power)

## SN74ALVCH16601DLR
designator U?
18-Bit Universal Bus Transceiver With 3-State Outputs, DL0056A, LARGE T&R; Generic Part Number: SN74ALVCH16601; Manufacturer: Texas Instruments; PartNumber: SN74ALVCH16601DLR; VCC(Min)(V): 1.65; VCC(Max)(V): 3.6; Output Type: LVTTL; Logic: True; Static Current: 0.04; Bits(#): 18; F @ Nom Voltage(Max)(Mhz): 100; Rating: Catalog; Technology Family: ALVC; Voltage(Nom)(V): 3.3; Schmitt Trigger: No; Output Drive (IOL/IOH)(Max)(mA): -24/24; tpd @ Nom Voltage(Max)(ns): 5; DatasheetVersion: SCES027F; PackageReference: DL0056A; Supplier 1: Mouser; Supplier Part Number 1: 595-74ALVCH16601DLR; Supplier 2: Digi-Key; Supplier Part Number 2: 296-5241-2-ND; Supplier 3: Digi-Key; Supplier Part Number 3: 296-5241-1-ND; Supplier 4: Digi-Key; Supplier Part Number 4: 296-5241-6-ND; ICC @ Nom Voltage(Max)(mA): 0.04; Input Type: LVTTL; Operating Temperature Range(C): -40 to 85; ComponentLink1Description: Manufacturer URL; ComponentLink1URL: http://www.ti.com/; ComponentLink2Description: Datasheet; ComponentLink2URL: http://www.ti.com/lit/ds/symlink/sn74alvch16601.pdf
footprint DL0056A_N (SOP, 56-Leads, Body 7.6x18.5mm, Pitch 0.635mm, IPC Medium Density)
footprint DL0056A_M (SOP, 56-Leads, Body 7.6x18.5mm, Pitch 0.635mm, IPC Low Density)
footprint DL0056A_L (SOP, 56-Leads, Body 7.6x18.5mm, Pitch 0.635mm, IPC High Density)
part A pins: 1 ~{OEAB} (in), 2 LEAB (in), 3 A1 (io), 5 A2 (io), 6 A3 (io), 8 A4 (io), 9 A5 (io), 10 A6 (io), 12 A7 (io), 13 A8 (io), 14 A9 (io), 15 A10 (io), 16 A11 (io), 17 A12 (io), 19 A13 (io), 20 A14 (io), 21 A15 (io), 23 A16 (io), 24 A17 (io), 26 A18 (io), 27 ~{OEBA} (in), 28 LEBA (in), 29 ~{CLKENBA} (in), 30 CLKBA (in), 31 B18 (io), 33 B17 (io), 34 B16 (io), 36 B15 (io), 37 B14 (io), 38 B13 (io), 40 B12 (io), 41 B11 (io), 42 B10 (io), 43 B9 (io), 44 B8 (io), 45 B7 (io), 47 B6 (io), 48 B5 (io), 49 B4 (io), 51 B3 (io), 52 B2 (io), 54 B1 (io), 55 CLKAB (in), 56 ~{CLKENAB} (in)
part B pins: 4 GND (power), 7 VCC (power), 11 GND (power), 18 GND (power), 22 VCC (power), 25 GND (power), 32 GND (power), 35 VCC (power), 39 GND (power), 46 GND (power), 50 VCC (power), 53 GND (power)

## SN74ALVCH16835DGGR
designator U?
18-Bit Universal Bus Driver With 3-State Outputs, DGG0056A, LARGE T&R; Generic Part Number: SN74ALVCH16835; Manufacturer: Texas Instruments; PartNumber: SN74ALVCH16835DGGR; VCC(Min)(V): 1.65; VCC(Max)(V): 3.6; Output Type: CMOS; ICC @ Nom Voltage(Max)(mA): 0.04; Bits(#): 18; F @ Nom Voltage(Max)(Mhz): 150; Rating: Catalog; Technology Family: ALVC; Voltage(Nom)(V): 1.8,2.5,2.7,3.3; DatasheetVersion: SCES053J; PackageReference: DGG0056A; Input Type: CMOS; Operating Temperature Range(C): -40 to 85; Code_JEDEC: MO-153; ComponentLink1Description: Manufacturer URL; ComponentLink1URL: http://www.ti.com/; ComponentLink2Description: Datasheet; ComponentLink2URL: http://www.ti.com/lit/ds/symlink/sn74alvch16835.pdf; ComponentLink3Description: Package Specification; ComponentLink3URL: http://www.ti.com/lit/ml/mtss003d/mtss003d.pdf
footprint DGG0056A_N (TSSOP, 56-Leads, Body 14.1x6.2mm, Pitch 0.5mm, IPC Medium Density)
footprint DGG0056A_M (TSSOP, 56-Leads, Body 14.1x6.2mm, Pitch 0.5mm, IPC Low Density)
footprint DGG0056A_L (TSSOP, 56-Leads, Body 14.1x6.2mm, Pitch 0.5mm, IPC High Density)
part A pins: 3 Y1 (hiz), 5 Y2 (hiz), 6 Y3 (hiz), 8 Y4 (hiz), 9 Y5 (hiz), 10 Y6 (hiz), 12 Y7 (hiz), 13 Y8 (hiz), 14 Y9 (hiz), 15 Y10 (hiz), 16 Y11 (hiz), 17 Y12 (hiz), 19 Y13 (hiz), 20 Y14 (hiz), 21 Y15 (hiz), 23 Y16 (hiz), 24 Y17 (hiz), 26 Y18 (hiz), 27 ~{OE} (in), 28 LE (in), 30 CLK (in), 31 A18 (in), 33 A17 (in), 34 A16 (in), 36 A15 (in), 37 A14 (in), 38 A13 (in), 40 A12 (in), 41 A11 (in), 42 A10 (in), 43 A9 (in), 44 A8 (in), 45 A7 (in), 47 A6 (in), 48 A5 (in), 49 A4 (in), 51 A3 (in), 52 A2 (in), 54 A1 (in)
part B pins: 1 NC, 2 NC, 4 GND (power), 7 VCC (power), 11 GND (power), 18 GND (power), 22 VCC (power), 25 GND (power), 29 GND (power), 32 GND (power), 35 VCC (power), 39 GND (power), 46 GND (power), 50 VCC (power), 53 GND (power), 55 NC, 56 GND (power)

## SN74ALVCH16835DGVR
designator U?
18-Bit Universal Bus Driver With 3-State Outputs, DGV0056A, LARGE T&R; Generic Part Number: SN74ALVCH16835; Manufacturer: Texas Instruments; PartNumber: SN74ALVCH16835DGVR; VCC(Min)(V): 1.65; VCC(Max)(V): 3.6; Output Type: CMOS; ICC @ Nom Voltage(Max)(mA): 0.04; Bits(#): 18; F @ Nom Voltage(Max)(Mhz): 150; Rating: Catalog; Technology Family: ALVC; Voltage(Nom)(V): 1.8,2.5,2.7,3.3; DatasheetVersion: SCES053J; PackageReference: DGV0056A; Input Type: CMOS; Operating Temperature Range(C): -40 to 85; Code_JEDEC: MO-194; ComponentLink1Description: Manufacturer URL; ComponentLink1URL: http://www.ti.com/; ComponentLink2Description: Datasheet; ComponentLink2URL: http://www.ti.com/lit/ds/symlink/sn74alvch16835.pdf; ComponentLink3Description: Package Specification; ComponentLink3URL: http://www.ti.com/lit/ml/mpds006c/mpds006c.pdf
footprint DGV0056A_N (SOP, 56-Leads, Body 4.5x11.4mm, Pitch 0.4mm, IPC Medium Density)
footprint DGV0056A_M (SOP, 56-Leads, Body 4.5x11.4mm, Pitch 0.4mm, IPC Low Density)
footprint DGV0056A_L (SOP, 56-Leads, Body 4.5x11.4mm, Pitch 0.4mm, IPC High Density)
part A pins: 3 Y1 (hiz), 5 Y2 (hiz), 6 Y3 (hiz), 8 Y4 (hiz), 9 Y5 (hiz), 10 Y6 (hiz), 12 Y7 (hiz), 13 Y8 (hiz), 14 Y9 (hiz), 15 Y10 (hiz), 16 Y11 (hiz), 17 Y12 (hiz), 19 Y13 (hiz), 20 Y14 (hiz), 21 Y15 (hiz), 23 Y16 (hiz), 24 Y17 (hiz), 26 Y18 (hiz), 27 ~{OE} (in), 28 LE (in), 30 CLK (in), 31 A18 (in), 33 A17 (in), 34 A16 (in), 36 A15 (in), 37 A14 (in), 38 A13 (in), 40 A12 (in), 41 A11 (in), 42 A10 (in), 43 A9 (in), 44 A8 (in), 45 A7 (in), 47 A6 (in), 48 A5 (in), 49 A4 (in), 51 A3 (in), 52 A2 (in), 54 A1 (in)
part B pins: 1 NC, 2 NC, 4 GND (power), 7 VCC (power), 11 GND (power), 18 GND (power), 22 VCC (power), 25 GND (power), 29 GND (power), 32 GND (power), 35 VCC (power), 39 GND (power), 46 GND (power), 50 VCC (power), 53 GND (power), 55 NC, 56 GND (power)

## SN74ALVCH16901DGGR
designator U?
18-Bit Universal Bus Transceiver with Parity Generators/Checkers, DGG0064A, LARGE T&R; Generic Part Number: SN74ALVCH16901; Manufacturer: Texas Instruments; PartNumber: SN74ALVCH16901DGGR; VCC(Min)(V): 1.65; VCC(Max)(V): 3.6; Output Type: LVTTL; Logic: True; Static Current: 0.04; Bits(#): 18; F @ Nom Voltage(Max)(Mhz): 100; Rating: Catalog; Technology Family: ALVC; Voltage(Nom)(V): 3.3; Schmitt Trigger: No; Output Drive (IOL/IOH)(Max)(mA): -24/24; tpd @ Nom Voltage(Max)(ns): 6.7; DatasheetVersion: SCES010F; PackageReference: DGG0064A; Supplier 1: Mouser; Supplier Part Number 1: 595-74ALVCH16901DGGR; Supplier 2: Digi-Key; Supplier Part Number 2: 296-6269-2-ND; Supplier 3: Digi-Key; Supplier Part Number 3: 296-6269-1-ND; Supplier 4: Digi-Key; Supplier Part Number 4: 296-6269-6-ND; ICC @ Nom Voltage(Max)(mA): 0.04; Input Type: LVTTL; Operating Temperature Range(C): -40 to 85; ComponentLink1Description: Manufacturer URL; ComponentLink1URL: http://www.ti.com/; ComponentLink2Description: Datasheet; ComponentLink2URL: http://www.ti.com/lit/ds/symlink/sn74alvch16901.pdf
footprint DGG0064A_N (TSSOP, 64-Leads, Body 17.1x6.2mm, Pitch 0.5mm, IPC Medium Density)
footprint DGG0064A_M (TSSOP, 64-Leads, Body 17.1x6.2mm, Pitch 0.5mm, IPC Low Density)
footprint DGG0064A_L (TSSOP, 64-Leads, Body 17.1x6.2mm, Pitch 0.5mm, IPC High Density)
part A pins: 1 1~{CLKENAB} (in), 2 LEAB (in), 3 CLKAB (in), 4 1~{ERRA} (hiz), 5 1APAR (io), 7 1A1 (io), 8 1A2 (io), 9 1A3 (io), 11 1A4 (io), 12 1A5 (io), 13 1A6 (io), 15 1A7 (io), 16 1A8 (io), 17 2A1 (io), 18 2A2 (io), 20 2A3 (io), 21 2A4 (io), 22 2A5 (io), 24 2A6 (io), 25 2A7 (io), 26 2A8 (io), 28 2APAR (io), 29 2~{ERRA} (hiz), 30 ~{OEAB} (in), 31 ~{SEL} (in), 32 2~{CLKENAB} (in), 33 2~{CLKENBA} (in), 34 ODD/~{EVEN} (in), 35 ~{OEBA} (in), 36 2~{ERRB} (hiz), 37 2BPAR (io), 39 2B8 (io), 40 2B7 (io), 41 2B6 (io), 43 2B5 (io), 44 2B4 (io), 45 2B3 (io), 47 2B2 (io), 48 2B1 (io), 49 1B8 (io), 50 1B7 (io), 52 1B6 (io), 53 1B5 (io), 54 1B4 (io), 56 1B3 (io), 57 1B2 (io), 58 1B1 (io), 60 1BPAR (io), 61 1~{ERRB} (hiz), 62 CLKBA (in), 63 LEBA (in), 64 1~{CLKENBA} (in)
part B pins: 6 GND (power), 10 VCC (power), 14 GND (power), 19 GND (power), 23 VCC (power), 27 GND (power), 38 GND (power), 42 VCC (power), 46 GND (power), 51 GND (power), 55 VCC (power), 59 GND (power)

## SN74ALVCH16903DL
designator U?
3.3-V 12-Bit Universal Bus Driver with Parity Checker and Dual 3-State Outputs, DL0056A, TUBE; Generic Part Number: SN74ALVCH16903; Manufacturer: Texas Instruments; PartNumber: SN74ALVCH16903DL; VCC(Min)(V): 2.3; VCC(Max)(V): 3.6; Output Type: CMOS; ICC @ Nom Voltage(Max)(mA): 0.04; Bits(#): 12; F @ Nom Voltage(Max)(Mhz): 150; Rating: Catalog; Technology Family: ALVC; Voltage(Nom)(V): 2.5,2.7,3.3; DatasheetVersion: SCES095D; PackageReference: DL0056A; Input Type: CMOS; Operating Temperature Range(C): -40 to 85; Code_JEDEC: MO-118; ComponentLink1Description: Manufacturer URL; ComponentLink1URL: http://www.ti.com/; ComponentLink2Description: Datasheet; ComponentLink2URL: http://www.ti.com/lit/ds/symlink/sn74alvch16903.pdf; ComponentLink3Description: Package Specification; ComponentLink3URL: http://www.ti.com/lit/ml/mpds491/mpds491.pdf
footprint DL0056A_N (SOP, 56-Leads, Body 7.6x18.5mm, Pitch 0.635mm, IPC Medium Density)
footprint DL0056A_M (SOP, 56-Leads, Body 7.6x18.5mm, Pitch 0.635mm, IPC Low Density)
footprint DL0056A_L (SOP, 56-Leads, Body 7.6x18.5mm, Pitch 0.635mm, IPC High Density)
part A pins: 1 ~{OE} (in), 2 1Y1 (hiz), 3 1Y2 (hiz), 5 2Y1 (hiz), 6 2Y2 (hiz), 8 3Y1 (hiz), 9 3Y2 (hiz), 10 4Y1 (hiz), 12 4Y2 (hiz), 13 5Y1 (hiz), 14 5Y2 (hiz), 15 6Y1 (hiz), 16 6Y2 (hiz), 17 7Y1 (hiz), 19 7Y2 (hiz), 20 8Y1 (hiz), 21 8Y2 (hiz), 23 9Y1 (hiz), 24 9Y2 (hiz), 26 10Y1 (hiz), 27 10Y2 (hiz), 28 ~{PAROE} (in), 29 ~{CLKEN} (in), 30 PARI/O (io), 31 10A (in), 33 MODE (in), 34 9A (in), 36 ~{YERR} (oc), 37 8A (in), 38 APAR (in), 40 7A (in), 41 6A (in), 42 5A (in), 43 12Y2 (hiz), 44 12Y1 (hiz), 45 12A (in), 47 4A (in), 48 3A (in), 49 2A (in), 51 11Y2 (hiz), 52 11Y1 (hiz), 54 11A/~{YERREN} (in), 55 1A (in), 56 CLK (in)
part B pins: 4 GND (power), 7 VCC (power), 11 GND (power), 18 GND (power), 22 VCC (power), 25 GND (power), 32 GND (power), 35 VCC (power), 39 GND (power), 46 GND (power), 50 VCC (power), 53 GND (power)

## SN74ALVCH32501KR
designator U?
36-Bit Universal Bus Transceiver with 3-State Outputs, GKF0114A, LARGE T&R; Generic Part Number: SN74ALVCH32501; Manufacturer: Texas Instruments; PartNumber: SN74ALVCH32501KR; VCC(Min)(V): 1.65; VCC(Max)(V): 3.6; Output Type: LVTTL; ICC @ Nom Voltage(Max)(mA): 0.08; Bits(#): 32; F @ Nom Voltage(Max)(Mhz): 100; Rating: Catalog; Technology Family: ALVC; Voltage(Nom)(V): 3.3; Schmitt Trigger: No; Output Drive (IOL/IOH)(Max)(mA): -24/24; tpd @ Nom Voltage(Max)(ns): 4.9; DatasheetVersion: SCES144G; PackageReference: GKF0114A; Supplier 1: Mouser; Supplier Part Number 1: 595-SN74ALVCH32501KR; Supplier 2: Digi-Key; Supplier Part Number 2: 296-6282-2-ND; Supplier 3: Digi-Key; Supplier Part Number 3: 296-6282-1-ND; Input Type: LVTTL; Operating Temperature Range(C): -40 to 85; ComponentLink1Description: Manufacturer URL; ComponentLink1URL: http://www.ti.com/; ComponentLink2Description: Datasheet; ComponentLink2URL: http://www.ti.com/lit/ds/symlink/sn74alvch32501.pdf
footprint GKF0114A (BGA, 114-Balls, Body 16x5.5mm, Pitch 0.8mm)
part A pins: A1 1A2 (io), A2 1A1 (io), A3 1LEAB (in), A4 1CLKAB (in), A5 1B1 (io), A6 1B2 (io), B1 1A4 (io), B2 1A3 (io), B3 1OEAB (in), B5 1B3 (io), B6 1B4 (io), C1 1A6 (io), C2 1A5 (io), C5 1B5 (io), C6 1B6 (io), D1 1A8 (io), D2 1A7 (io), D5 1B7 (io), D6 1B8 (io), E1 1A10 (io), E2 1A9 (io), E5 1B9 (io), E6 1B10 (io), F1 1A12 (io), F2 1A11 (io), F5 1B11 (io), F6 1B12 (io), G1 1A14 (io), G2 1A13 (io), G5 1B13 (io), G6 1B14 (io), H1 1A15 (io), H2 1A16 (io), H5 1B16 (io), H6 1B15 (io), J1 1A17 (io), J2 1A18 (io), J3 1~{OEBA} (in), J4 1CLKBA (in), J5 1B18 (io), J6 1B17 (io), K3 1LEBA (in)
part B pins: K2 2LEAB (in), K5 2CLKAB (in), L1 2A2 (io), L2 2A1 (io), L3 2OEAB (in), L5 2B1 (io), L6 2B2 (io), M1 2A4 (io), M2 2A3 (io), M5 2B3 (io), M6 2B4 (io), N1 2A6 (io), N2 2A5 (io), N5 2B5 (io), N6 2B6 (io), P1 2A8 (io), P2 2A7 (io), P5 2B7 (io), P6 2B8 (io), R1 2A10 (io), R2 2A9 (io), R5 2B9 (io), R6 2B10 (io), T1 2A12 (io), T2 2A11 (io), T5 2B11 (io), T6 2B12 (io), U1 2A14 (io), U2 2A13 (io), U5 2B13 (io), U6 2B14 (io), V1 2A15 (io), V2 2A16 (io), V3 2~{OEBA} (in), V4 2CLKBA (in), V5 2B16 (io), V6 2B15 (io), W1 2A17 (io), W2 2A18 (io), W3 2LEBA (in), W5 2B18 (io), W6 2B17 (io)
part C pins: B4 GND (power), C3 GND (power), C4 GND (power), D3 VCC (power), D4 VCC (power), E3 GND (power), E4 GND (power), F3 GND (power), F4 GND (power), G3 VCC (power), G4 VCC (power), H3 GND (power), H4 GND (power), K1 NC, K4 GND (power), K6 NC, L4 GND (power), M3 GND (power), M4 GND (power), N3 VCC (power), N4 VCC (power), P3 GND (power), P4 GND (power), R3 GND (power), R4 GND (power), T3 VCC (power), T4 VCC (power), U3 GND (power), U4 GND (power), W4 GND (power)

## SN74ALVCH162268DL
designator U?
12-Bit To 24-Bit Registered Bus Exchanger With 3-State Outputs, DL0056A, TUBE; Generic Part Number: SN74ALVCH162268; Manufacturer: Texas Instruments; PartNumber: SN74ALVCH162268DL; VCC(Min)(V): 1.65; VCC(Max)(V): 3.6; Output Type: CMOS; Input Level: LVTTL; Static Current: 0.04; Bits(#): 24; F @ Nom Voltage(Max)(Mhz): 150; Rating: Catalog; DatasheetVersion: SCES018L; PackageReference: DL0056A; Output Level: LVTTL; ICC @ Nom Voltage(Max)(mA): 0.04; Input Type: CMOS; Operating Temperature Range(C): -40 to 85; Code_JEDEC: MO-118; ComponentLink1Description: Manufacturer URL; ComponentLink1URL: http://www.ti.com/; ComponentLink2Description: Datasheet; ComponentLink2URL: http://www.ti.com/lit/ds/symlink/sn74alvch162268.pdf; ComponentLink3Description: Package Specification; ComponentLink3URL: http://www.ti.com/lit/ml/mpds491/mpds491.pdf
footprint DL0056A_N (SOP, 56-Leads, Body 7.6x18.5mm, Pitch 0.635mm, IPC Medium Density)
footprint DL0056A_M (SOP, 56-Leads, Body 7.6x18.5mm, Pitch 0.635mm, IPC Low Density)
footprint DL0056A_L (SOP, 56-Leads, Body 7.6x18.5mm, Pitch 0.635mm, IPC High Density)
part A pins: 1 ~{OEA} (in), 2 ~{CLKEN1B} (in), 3 2B3 (io), 5 2B2 (io), 6 2B1 (io), 8 A1 (io), 9 A2 (io), 10 A3 (io), 12 A4 (io), 13 A5 (io), 14 A6 (io), 15 A7 (io), 16 A8 (io), 17 A9 (io), 19 A10 (io), 20 A11 (io), 21 A12 (io), 23 1B1 (io), 24 1B2 (io), 26 1B3 (io), 27 ~{CLKEN2B} (in), 28 ~{SEL} (in), 29 CLK (in), 30 ~{CLKENA1} (in), 31 1B4 (io), 33 1B5 (io), 34 1B6 (io), 36 1B7 (io), 37 1B8 (io), 38 1B9 (io), 40 1B10 (io), 41 1B11 (io), 42 1B12 (io), 43 2B12 (io), 44 2B11 (io), 45 2B10 (io), 47 2B9 (io), 48 2B8 (io), 49 2B7 (io), 51 2B6 (io), 52 2B5 (io), 54 2B4 (io), 55 ~{CLKENA2} (in), 56 ~{OEB} (in)
part B pins: 4 GND (power), 7 VCC (power), 11 GND (power), 18 GND (power), 22 VCC (power), 25 GND (power), 32 GND (power), 35 VCC (power), 39 GND (power), 46 GND (power), 50 VCC (power), 53 GND (power)

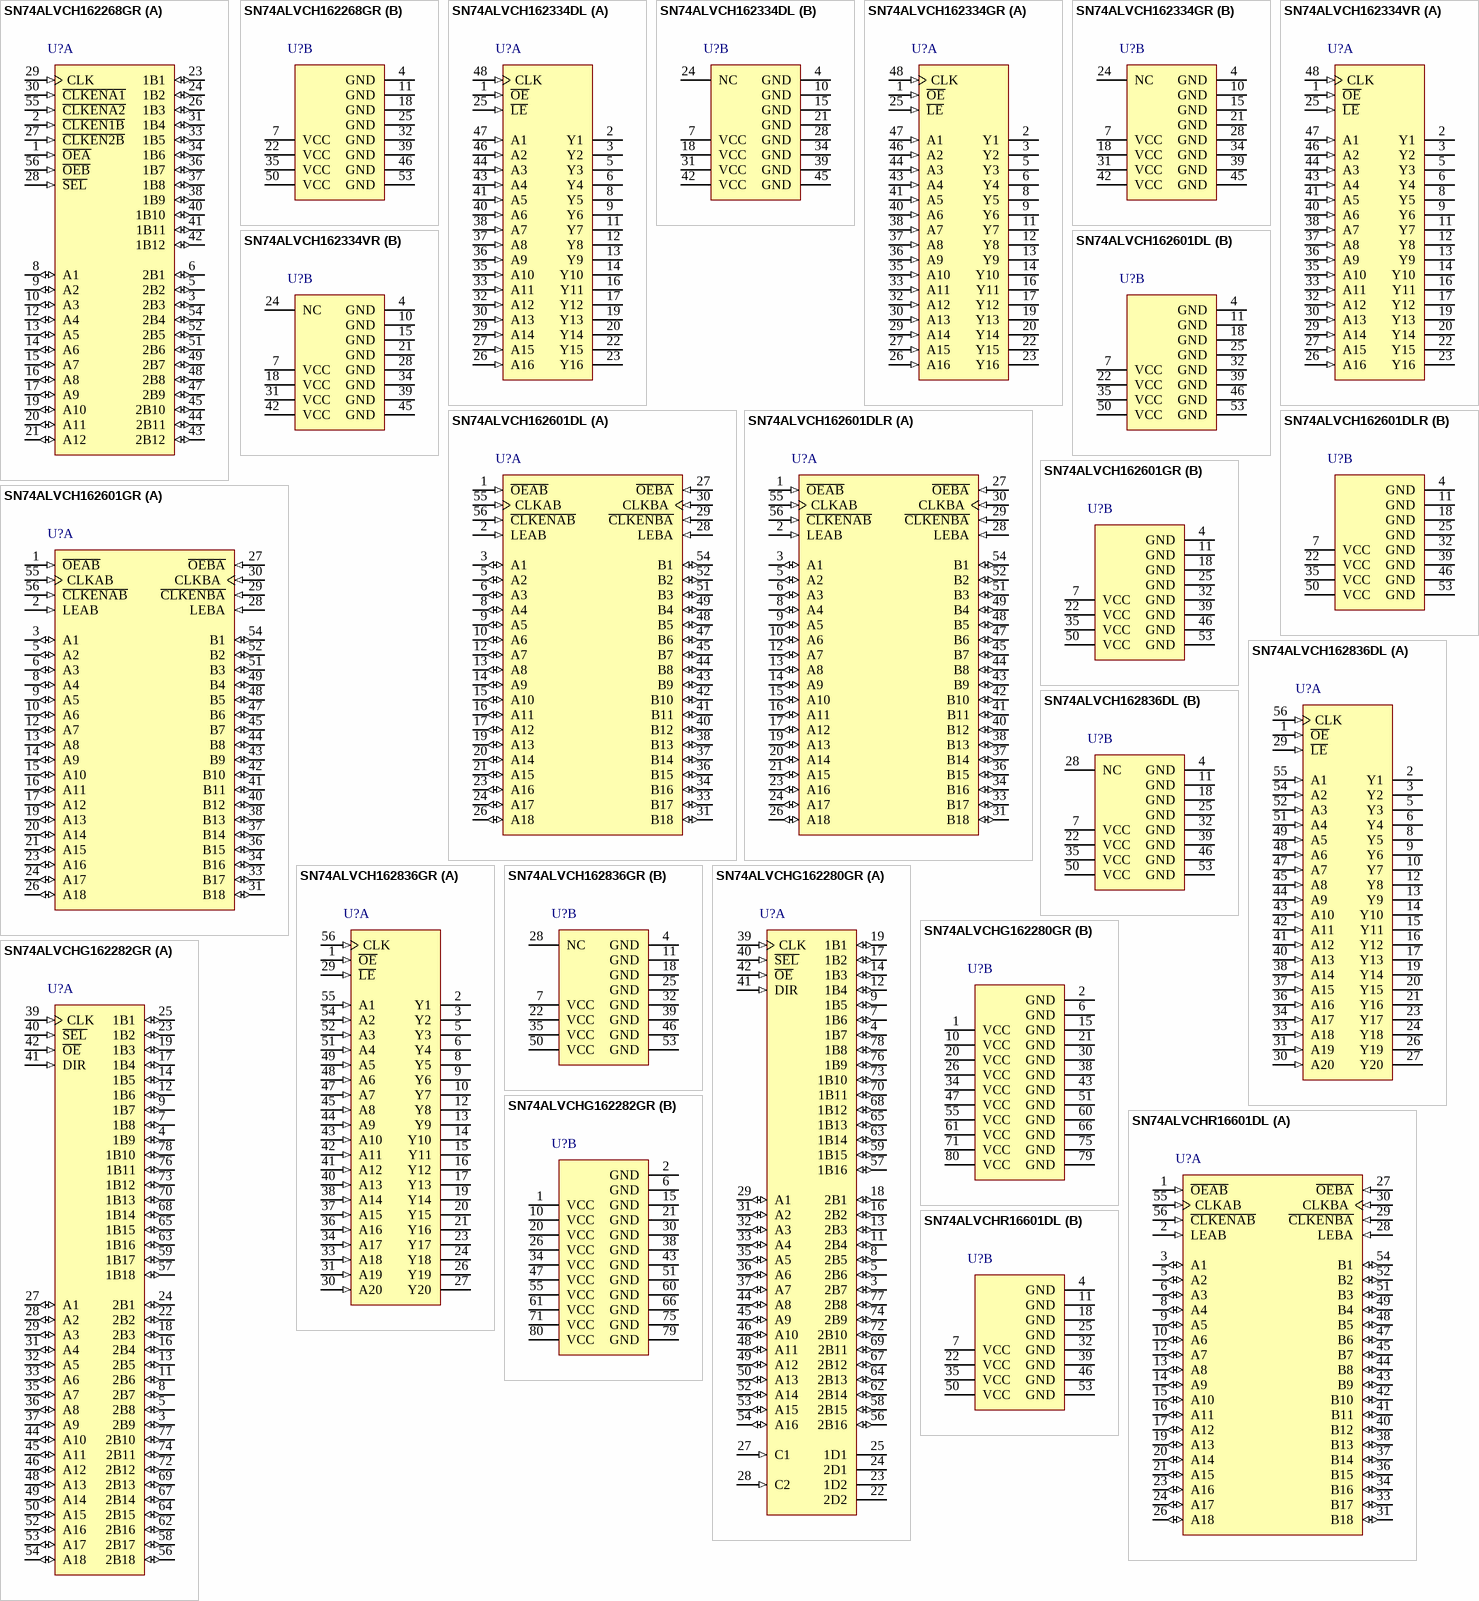
[diagram p6: symbols SN74ALVCH162268GR to SN74ALVCHR16601DL]

## SN74ALVCH162268GR
designator U?
12-Bit To 24-Bit Registered Bus Exchanger With 3-State Outputs, DGG0056A, LARGE T&R; Generic Part Number: SN74ALVCH162268; Manufacturer: Texas Instruments; PartNumber: SN74ALVCH162268GR; VCC(Min)(V): 1.65; VCC(Max)(V): 3.6; Output Type: CMOS; Input Level: LVTTL; Static Current: 0.04; Bits(#): 24; F @ Nom Voltage(Max)(Mhz): 150; Rating: Catalog; DatasheetVersion: SCES018L; PackageReference: DGG0056A; Output Level: LVTTL; ICC @ Nom Voltage(Max)(mA): 0.04; Input Type: CMOS; Operating Temperature Range(C): -40 to 85; Code_JEDEC: MO-153; ComponentLink1Description: Manufacturer URL; ComponentLink1URL: http://www.ti.com/; ComponentLink2Description: Datasheet; ComponentLink2URL: http://www.ti.com/lit/ds/symlink/sn74alvch162268.pdf; ComponentLink3Description: Package Specification; ComponentLink3URL: http://www.ti.com/lit/ml/mtss003d/mtss003d.pdf
footprint DGG0056A_N (TSSOP, 56-Leads, Body 14.1x6.2mm, Pitch 0.5mm, IPC Medium Density)
footprint DGG0056A_M (TSSOP, 56-Leads, Body 14.1x6.2mm, Pitch 0.5mm, IPC Low Density)
footprint DGG0056A_L (TSSOP, 56-Leads, Body 14.1x6.2mm, Pitch 0.5mm, IPC High Density)
part A pins: 1 ~{OEA} (in), 2 ~{CLKEN1B} (in), 3 2B3 (io), 5 2B2 (io), 6 2B1 (io), 8 A1 (io), 9 A2 (io), 10 A3 (io), 12 A4 (io), 13 A5 (io), 14 A6 (io), 15 A7 (io), 16 A8 (io), 17 A9 (io), 19 A10 (io), 20 A11 (io), 21 A12 (io), 23 1B1 (io), 24 1B2 (io), 26 1B3 (io), 27 ~{CLKEN2B} (in), 28 ~{SEL} (in), 29 CLK (in), 30 ~{CLKENA1} (in), 31 1B4 (io), 33 1B5 (io), 34 1B6 (io), 36 1B7 (io), 37 1B8 (io), 38 1B9 (io), 40 1B10 (io), 41 1B11 (io), 42 1B12 (io), 43 2B12 (io), 44 2B11 (io), 45 2B10 (io), 47 2B9 (io), 48 2B8 (io), 49 2B7 (io), 51 2B6 (io), 52 2B5 (io), 54 2B4 (io), 55 ~{CLKENA2} (in), 56 ~{OEB} (in)
part B pins: 4 GND (power), 7 VCC (power), 11 GND (power), 18 GND (power), 22 VCC (power), 25 GND (power), 32 GND (power), 35 VCC (power), 39 GND (power), 46 GND (power), 50 VCC (power), 53 GND (power)

## SN74ALVCH162334DL
designator U?
16-Bit Universal Bus Driver With 3-State Outputs, DL0048A, TUBE; Generic Part Number: SN74ALVCH162334; Manufacturer: Texas Instruments; PartNumber: SN74ALVCH162334DL; VCC(Min)(V): 1.65; VCC(Max)(V): 3.6; Output Type: CMOS; ICC @ Nom Voltage(Max)(mA): 0.04; Bits(#): 16; F @ Nom Voltage(Max)(Mhz): 150; Rating: Catalog; Technology Family: ALVC; Voltage(Nom)(V): 1.8,2.5,2.7,3.3; DatasheetVersion: SCES120H; PackageReference: DL0048A; Input Type: CMOS; Operating Temperature Range(C): -40 to 85; Code_JEDEC: MO-118; ComponentLink1Description: Manufacturer URL; ComponentLink1URL: http://www.ti.com/; ComponentLink2Description: Datasheet; ComponentLink2URL: http://www.ti.com/lit/ds/symlink/sn74alvch162334.pdf; ComponentLink3Description: Package Specification; ComponentLink3URL: http://www.ti.com/lit/ml/mpds490/mpds490.pdf
footprint DL0048A_N (SOP, 48-Leads, Body 7.6x16mm, Pitch 0.635mm, IPC Medium Density)
footprint DL0048A_M (SOP, 48-Leads, Body 7.6x16mm, Pitch 0.635mm, IPC Low Density)
footprint DL0048A_L (SOP, 48-Leads, Body 7.6x16mm, Pitch 0.635mm, IPC High Density)
part A pins: 1 ~{OE} (in), 2 Y1 (hiz), 3 Y2 (hiz), 5 Y3 (hiz), 6 Y4 (hiz), 8 Y5 (hiz), 9 Y6 (hiz), 11 Y7 (hiz), 12 Y8 (hiz), 13 Y9 (hiz), 14 Y10 (hiz), 16 Y11 (hiz), 17 Y12 (hiz), 19 Y13 (hiz), 20 Y14 (hiz), 22 Y15 (hiz), 23 Y16 (hiz), 25 ~{LE} (in), 26 A16 (in), 27 A15 (in), 29 A14 (in), 30 A13 (in), 32 A12 (in), 33 A11 (in), 35 A10 (in), 36 A9 (in), 37 A8 (in), 38 A7 (in), 40 A6 (in), 41 A5 (in), 43 A4 (in), 44 A3 (in), 46 A2 (in), 47 A1 (in), 48 CLK (in)
part B pins: 4 GND (power), 7 VCC (power), 10 GND (power), 15 GND (power), 18 VCC (power), 21 GND (power), 24 NC, 28 GND (power), 31 VCC (power), 34 GND (power), 39 GND (power), 42 VCC (power), 45 GND (power)

## SN74ALVCH162334GR
designator U?
16-Bit Universal Bus Driver With 3-State Outputs, DGG0048A, LARGE T&R; Generic Part Number: SN74ALVCH162334; Manufacturer: Texas Instruments; PartNumber: SN74ALVCH162334GR; VCC(Min)(V): 1.65; VCC(Max)(V): 3.6; Output Type: CMOS; ICC @ Nom Voltage(Max)(mA): 0.04; Bits(#): 16; F @ Nom Voltage(Max)(Mhz): 150; Rating: Catalog; Technology Family: ALVC; Voltage(Nom)(V): 1.8,2.5,2.7,3.3; DatasheetVersion: SCES120H; PackageReference: DGG0048A; Input Type: CMOS; Operating Temperature Range(C): -40 to 85; Code_JEDEC: MO-153; ComponentLink1Description: Manufacturer URL; ComponentLink1URL: http://www.ti.com/; ComponentLink2Description: Datasheet; ComponentLink2URL: http://www.ti.com/lit/ds/symlink/sn74alvch162334.pdf; ComponentLink3Description: Package Specification; ComponentLink3URL: http://www.ti.com/lit/ml/mtss003d/mtss003d.pdf
footprint DGG0048A_N (TSSOP, 48-Leads, Body 12.6x6.2mm, Pitch 0.5mm, IPC Medium Density)
footprint DGG0048A_M (TSSOP, 48-Leads, Body 12.6x6.2mm, Pitch 0.5mm, IPC Low Density)
footprint DGG0048A_L (TSSOP, 48-Leads, Body 12.6x6.2mm, Pitch 0.5mm, IPC High Density)
part A pins: 1 ~{OE} (in), 2 Y1 (hiz), 3 Y2 (hiz), 5 Y3 (hiz), 6 Y4 (hiz), 8 Y5 (hiz), 9 Y6 (hiz), 11 Y7 (hiz), 12 Y8 (hiz), 13 Y9 (hiz), 14 Y10 (hiz), 16 Y11 (hiz), 17 Y12 (hiz), 19 Y13 (hiz), 20 Y14 (hiz), 22 Y15 (hiz), 23 Y16 (hiz), 25 ~{LE} (in), 26 A16 (in), 27 A15 (in), 29 A14 (in), 30 A13 (in), 32 A12 (in), 33 A11 (in), 35 A10 (in), 36 A9 (in), 37 A8 (in), 38 A7 (in), 40 A6 (in), 41 A5 (in), 43 A4 (in), 44 A3 (in), 46 A2 (in), 47 A1 (in), 48 CLK (in)
part B pins: 4 GND (power), 7 VCC (power), 10 GND (power), 15 GND (power), 18 VCC (power), 21 GND (power), 24 NC, 28 GND (power), 31 VCC (power), 34 GND (power), 39 GND (power), 42 VCC (power), 45 GND (power)

## SN74ALVCH162334VR
designator U?
16-Bit Universal Bus Driver With 3-State Outputs, DGV0048A, LARGE T&R; Generic Part Number: SN74ALVCH162334; Manufacturer: Texas Instruments; PartNumber: SN74ALVCH162334VR; VCC(Min)(V): 1.65; VCC(Max)(V): 3.6; Output Type: CMOS; ICC @ Nom Voltage(Max)(mA): 0.04; Bits(#): 16; F @ Nom Voltage(Max)(Mhz): 150; Rating: Catalog; Technology Family: ALVC; Voltage(Nom)(V): 1.8,2.5,2.7,3.3; DatasheetVersion: SCES120H; PackageReference: DGV0048A; Input Type: CMOS; Operating Temperature Range(C): -40 to 85; Code_JEDEC: MO-153; ComponentLink1Description: Manufacturer URL; ComponentLink1URL: http://www.ti.com/; ComponentLink2Description: Datasheet; ComponentLink2URL: http://www.ti.com/lit/ds/symlink/sn74alvch162334.pdf; ComponentLink3Description: Package Specification; ComponentLink3URL: http://www.ti.com/lit/ml/mpds006c/mpds006c.pdf
footprint DGV0048A_N (SOP, 48-Leads, Body 4.5x9.8mm, Pitch 0.4mm, IPC Medium Density)
footprint DGV0048A_M (SOP, 48-Leads, Body 4.5x9.8mm, Pitch 0.4mm, IPC Low Density)
footprint DGV0048A_L (SOP, 48-Leads, Body 4.5x9.8mm, Pitch 0.4mm, IPC High Density)
part A pins: 1 ~{OE} (in), 2 Y1 (hiz), 3 Y2 (hiz), 5 Y3 (hiz), 6 Y4 (hiz), 8 Y5 (hiz), 9 Y6 (hiz), 11 Y7 (hiz), 12 Y8 (hiz), 13 Y9 (hiz), 14 Y10 (hiz), 16 Y11 (hiz), 17 Y12 (hiz), 19 Y13 (hiz), 20 Y14 (hiz), 22 Y15 (hiz), 23 Y16 (hiz), 25 ~{LE} (in), 26 A16 (in), 27 A15 (in), 29 A14 (in), 30 A13 (in), 32 A12 (in), 33 A11 (in), 35 A10 (in), 36 A9 (in), 37 A8 (in), 38 A7 (in), 40 A6 (in), 41 A5 (in), 43 A4 (in), 44 A3 (in), 46 A2 (in), 47 A1 (in), 48 CLK (in)
part B pins: 4 GND (power), 7 VCC (power), 10 GND (power), 15 GND (power), 18 VCC (power), 21 GND (power), 24 NC, 28 GND (power), 31 VCC (power), 34 GND (power), 39 GND (power), 42 VCC (power), 45 GND (power)